# Altium integrated library EEUTA1J221S.IntLib: 1 symbol
Pins are listed as number, name and electrical type; pins without a type are passive.

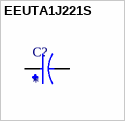
[diagram p0: symbol EEUTA1J221S]

## EEUTA1J221S
designator C?
CAP ALUM 220UF 20% 63V RADIAL; MP: EEU-TA1J221S; MF: Panasonic; Purchase-URL: https://pricing.snapeda.com/search/part/EEU-TA1J221S/?ref=eda; Package: RADIAL-2 Panasonic; Value: *; SnapEDA_Link: https://www.snapeda.com/parts/EEU-TA1J221S/Panasonic/view-part/2346469/?ref=snap; Availability: In Stock; Price: None; Check_prices: https://www.snapeda.com/parts/EEU-TA1J221S/Panasonic/view-part/2346469/?ref=eda
footprint CAPPRD750W80D1800H1500
pins: N, P